# Altium footprint library L78M05CDT.PcbLib: 1 footprints
Each footprint in its own frame and in the unit in brackets; x right, y up, seen from the top. Pads: shape width x height; smd on the part's side, far side on the other; paste and mask are expansions set on the pad; w line width, h text height; cw(c..) or ccw(c..) is an arc to the next point about the centre after c.
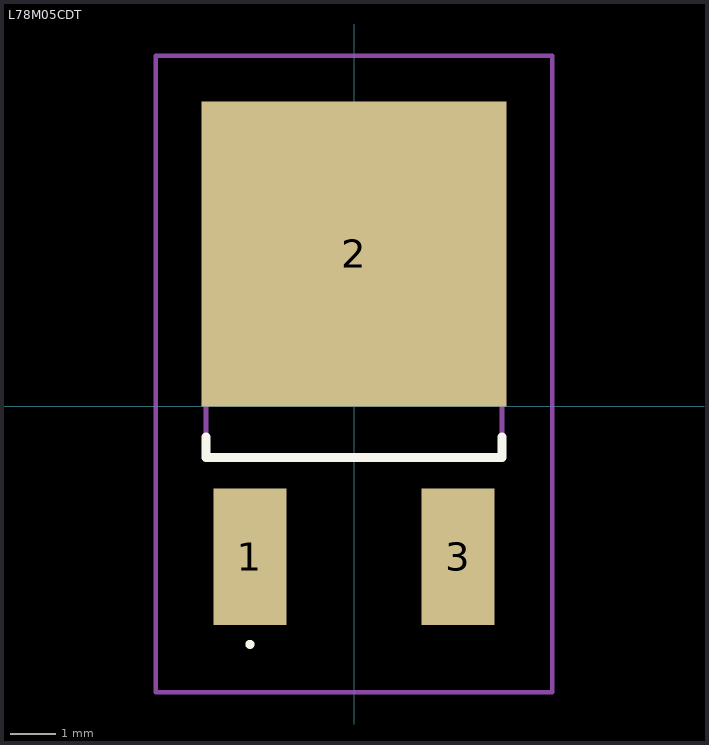
[diagram p0: the footprint, top view; thin cyan lines are the x and y axes]

## L78M05CDT [mm]
pads (3):
  rect 1.6x3 smd: 1(-2.286,-3.3) 3(2.286,-3.3)
  rect 6.7x6.7 smd: 2(0,3.35)
Top Overlay:
  lines w0.1: -2.286,-5.275 cw(c-2.286,-5.225) -2.286,-5.175 ; -2.286,-5.275 -2.286,-5.275 ; -2.286,-5.275 ccw(c-2.286,-5.225) -2.286,-5.175 ; -2.286,-5.175 -2.286,-5.175
  lines w0.2: -3.25,-0.675 -3.25,-1.125 3.25,-1.125 3.25,-0.675
Mechanical 15:
  lines w0.1: -3.25,-1.125 3.25,-1.125 3.25,4.975 -3.25,4.975 -3.25,-1.125
Mechanical 20:
  lines w0.1: -4.35,-6.275 4.35,-6.275 4.35,7.7 -4.35,7.7 -4.35,-6.275